# EAGLE library part AT27C512R-70PU (library Parts)
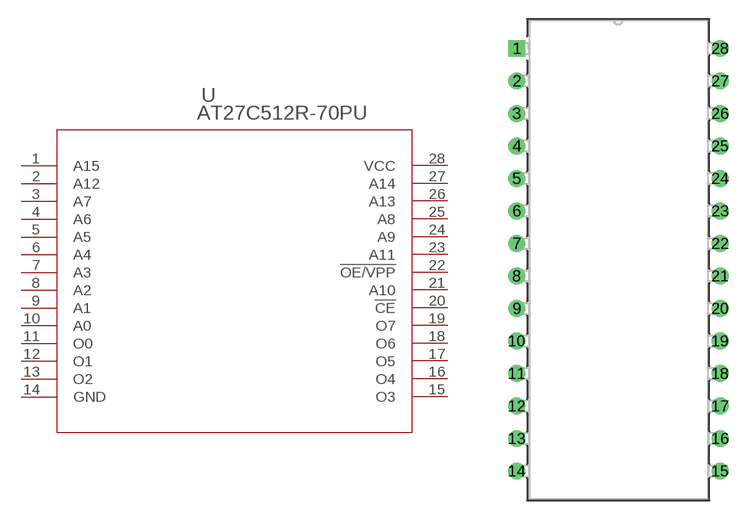
[diagram p5: symbol with the pads of 28P6_ATM; footprint 28P6_ATM]

Designator prefix U

## AT27C512R-70PU (COPYRIGHT: Copyright (C) 2021 Ultra Librarian. All rights reserved.; DIGI-KEY_PART_NUMBER_1: AT27C512R-70PU-ND; DIGI-KEY_PART_NUMBER_2: MCC-3337-ND; MANUFACTURER_PART_NUMBER: AT27C512R-70PU; MFR_NAME: Microchip)  [28P6_ATM]
1  A15  pas
2  A12  pas
3  A7  pas
4  A6  pas
5  A5  pas
6  A4  pas
7  A3  pas
8  A2  pas
9  A1  pas
10  A0  pas
11  O0  out
12  O1  out
13  O2  out
14  GND  pwr
15  O3  out
16  O4  out
17  O5  out
18  O6  out
19  O7  out
20  !CE  pas
21  A10  pas
22  !OE/VPP
23  A11  pas
24  A9  pas
25  A8  pas
26  A13  pas
27  A14  pas
28  VCC  pwr

## Footprint 28P6_ATM (pad centres in mm)
drill 0.813 pad 1.321 square: 1 0,0
drill 0.813 pad 1.321: 2 0,-2.54; 3 0,-5.08; 4 0,-7.62; 5 0,-10.16; 6 0,-12.7; 7 0,-15.24; 8 0,-17.78; 9 0,-20.32; 10 0,-22.86; 11 0,-25.4; 12 0,-27.94; 13 0,-30.48; 14 0,-33.02; 15 15.875,-33.02; 16 15.875,-30.48; 17 15.875,-27.94; 18 15.875,-25.4; 19 15.875,-22.86; 20 15.875,-20.32; 21 15.875,-17.78; 22 15.875,-15.24; 23 15.875,-12.7; 24 15.875,-10.16; 25 15.875,-7.62; 26 15.875,-5.08; 27 15.875,-2.54; 28 15.875,0